# Altium footprint library HoperRF.PcbLib: 1 footprints
Each footprint in its own frame and in the unit in brackets; x right, y up, seen from the top. Pads: shape width x height; smd on the part's side, far side on the other; paste and mask are expansions set on the pad; w line width, h text height; cw(c..) or ccw(c..) is an arc to the next point about the centre after c.
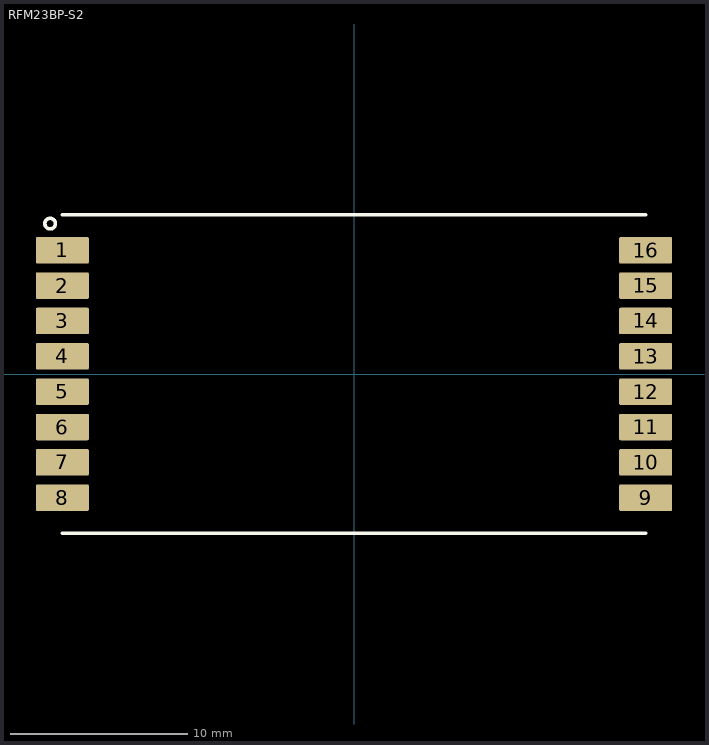
[diagram p0: the footprint, top view; thin cyan lines are the x and y axes]

## RFM23BP-S2 [mm] "RFM23BP-S2"
height 1.9
pads (16):
  rrect10% 3x1.5 smd mask+0.075: 1(-16.5,7) 2(-16.5,5) 3(-16.5,3) 4(-16.5,1) 5(-16.5,-1) 6(-16.5,-3) 7(-16.5,-5) 8(-16.5,-7) 9(16.5,-7) 10(16.5,-5) 11(16.5,-3) 12(16.5,-1) 13(16.5,1) 14(16.5,3) 15(16.5,5) 16(16.5,7)
Top Overlay:
  circle w0.2: c-17.191,8.509 r0.3
  lines w0.2: -16.5,-9 16.5,-9 ; -16.5,9 16.5,9
3D body: height 1.9, standoff 0, extent -16.5,-9 16.5,9